# EAGLE library part MPL3115A2 (library Explore Labs EAGLE Library)
Altimeter/Pressure Sensor, I2C, 1.95V-3.6V supply, 50 to 110kPa
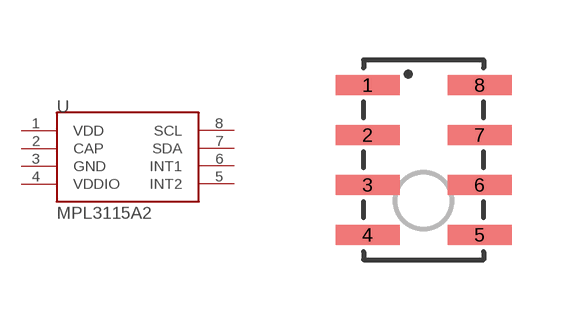
[diagram p13: symbol with the pads of LGA8; footprint LGA8]

Designator prefix U

## MPL3115A2LGA8  [LGA8]
1  VDD
2  CAP
3  GND
4  VDDIO
5  INT2
6  INT1
7  SDA
8  SCL

## Footprint LGA8 (pad centres in mm)
LGA8 Package **UNPROVEN** 5.0x3.0x1.2mm 8-pad Used in MPL115A1 -
smd 1.6 x 0.5: 1 -1.4,1.875; 2 -1.4,0.625; 3 -1.4,-0.625; 4 -1.4,-1.875; 5 1.4,-1.875; 6 1.4,-0.625; 7 1.4,0.625; 8 1.4,1.875